# EAGLE library part LSMGY (library bluepill)
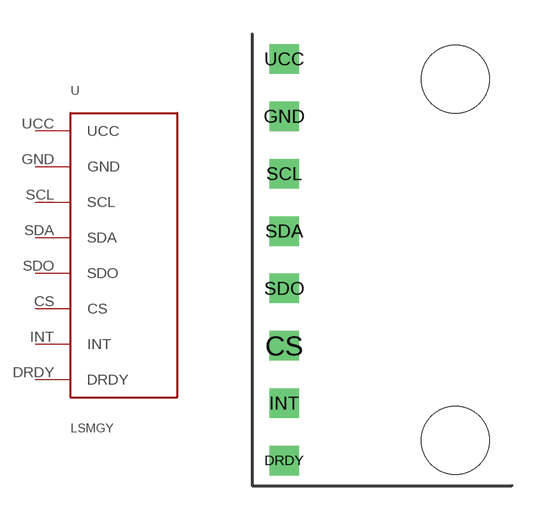
[diagram p1: symbol with the pads of LSMGY; footprint LSMGY]

Designator prefix -

## LSMGY  [LSMGY]
CS  CS
DRDY  DRDY
GND  GND
INT  INT
SCL  SCL
SDA  SDA
SDO  SDO
UCC  UCC

## Footprint LSMGY (pad centres in mm)
lsm
drill 0.8 square: CS -5.08,-3.81; DRDY -5.08,-8.89; GND -5.08,6.35; INT -5.08,-6.35; SCL -5.08,3.81; SDA -5.08,1.27; SDO -5.08,-1.27; UCC -5.08,8.89
hole 3 at 2.5,8
hole 3 at 2.5,-8